# Altium schematic symbol library ESP32.SchLib: 1 symbol
Pins are listed as number, name and electrical type; pins without a type are passive.

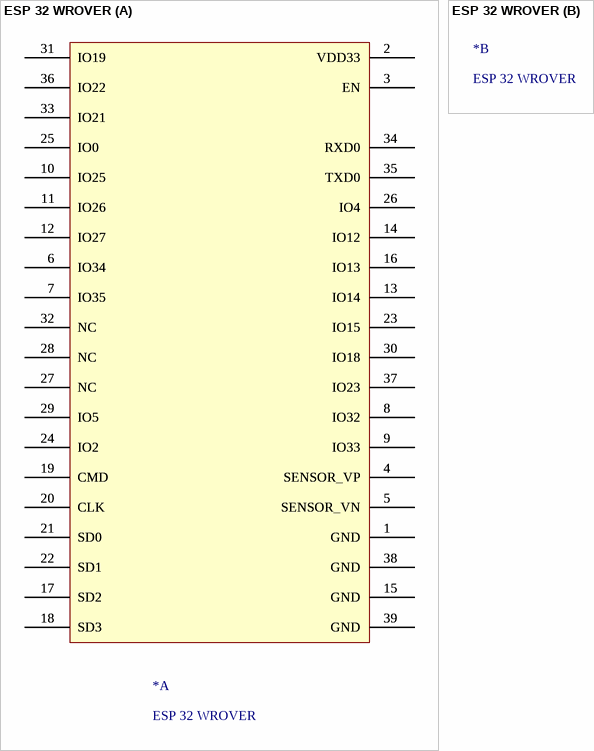
[diagram p0: symbol ESP 32 WROVER]

## ESP 32 WROVER
designator *
part A pins: 1 GND, 1 GND, 2 VDD33, 2 VDD33, 3 EN, 3 EN, 4 SENSOR_VP, 4 SENSOR_VP, 5 SENSOR_VN, 5 SENSOR_VN, 6 IO34, 6 IO34, 7 IO35, 7 IO35, 8 IO32, 8 IO32, 9 IO33, 9 IO33, 10 IO25, 10 IO25, 11 IO26, 11 IO26, 12 IO27, 12 IO27, 13 IO14, 13 IO14, 14 IO12, 14 IO12, 15 GND, 15 GND, 16 IO13, 16 IO13, 17 SD2, 17 SD2, 18 SD3, 18 SD3, 19 CMD, 19 CMD, 20 CLK, 20 CLK, 21 SD0, 21 SD0, 22 SD1, 22 SD1, 23 IO15, 23 IO15, 24 IO2, 24 IO2, 25 IO0, 25 IO0, 26 IO4, 26 IO4, 27 NC, 27 NC, 28 NC, 28 NC, 29 IO5, 29 IO5, 30 IO18, 30 IO18, 31 IO19, 31 IO19, 32 NC, 32 NC, 33 IO21, 33 IO21, 34 RXD0, 34 RXD0, 35 TXD0, 35 TXD0, 36 IO22, 36 IO22, 37 IO23, 37 IO23, 38 GND, 38 GND, 39 GND, 39 GND